# EAGLE library part BLUEPILL (library stm32duino boards)
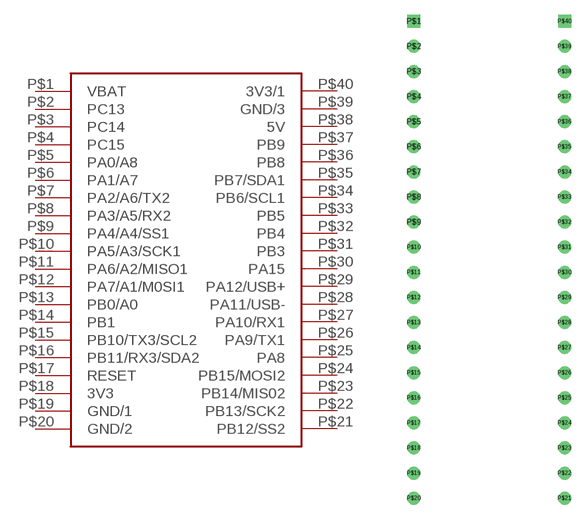
[diagram p1: symbol with the pads of BLUEPILL; footprint BLUEPILL]

Designator prefix -

## BLUEPILL  [BLUEPILL]
P$1  VBAT
P$2  PC13
P$3  PC14
P$4  PC15
P$5  PA0/A8
P$6  PA1/A7
P$7  PA2/A6/TX2
P$8  PA3/A5/RX2
P$9  PA4/A4/SS1
P$10  PA5/A3/SCK1
P$11  PA6/A2/MISO1
P$12  PA7/A1/M0SI1
P$13  PB0/A0
P$14  PB1
P$15  PB10/TX3/SCL2
P$16  PB11/RX3/SDA2
P$17  RESET
P$18  3V3
P$19  GND/1
P$20  GND/2
P$21  PB12/SS2
P$22  PB13/SCK2
P$23  PB14/MIS02
P$24  PB15/MOSI2
P$25  PA8
P$26  PA9/TX1
P$27  PA10/RX1
P$28  PA11/USB-
P$29  PA12/USB+
P$30  PA15
P$31  PB3
P$32  PB4
P$33  PB5
P$34  PB6/SCL1
P$35  PB7/SDA1
P$36  PB8
P$37  PB9
P$38  5V
P$39  GND/3
P$40  3V3/1

## Footprint BLUEPILL (pad centres in mm)
drill 0.8 square: P$1 -7.62,22.86; P$40 7.62,22.86
drill 0.8: P$2 -7.62,20.32; P$3 -7.62,17.78; P$4 -7.62,15.24; P$5 -7.62,12.7; P$6 -7.62,10.16; P$7 -7.62,7.62; P$8 -7.62,5.08; P$9 -7.62,2.54; P$10 -7.62,0; P$11 -7.62,-2.54; P$12 -7.62,-5.08; P$13 -7.62,-7.62; P$14 -7.62,-10.16; P$15 -7.62,-12.7; P$16 -7.62,-15.24; P$17 -7.62,-17.78; P$18 -7.62,-20.32; P$19 -7.62,-22.86; P$20 -7.62,-25.4; P$21 7.62,-25.4; P$22 7.62,-22.86; P$23 7.62,-20.32; P$24 7.62,-17.78; P$25 7.62,-15.24; P$26 7.62,-12.7; P$27 7.62,-10.16; P$28 7.62,-7.62; P$29 7.62,-5.08; P$30 7.62,-2.54; P$31 7.62,0; P$32 7.62,2.54; P$33 7.62,5.08; P$34 7.62,7.62; P$35 7.62,10.16; P$36 7.62,12.7; P$37 7.62,15.24; P$38 7.62,17.78; P$39 7.62,20.32